# Altium footprint library ESD5Z6.0T1G.PcbLib: 3 footprints
Each footprint in its own frame and in the unit in brackets; x right, y up, seen from the top. Pads: shape width x height; smd on the part's side, far side on the other; paste and mask are expansions set on the pad; w line width, h text height; cw(c..) or ccw(c..) is an arc to the next point about the centre after c.
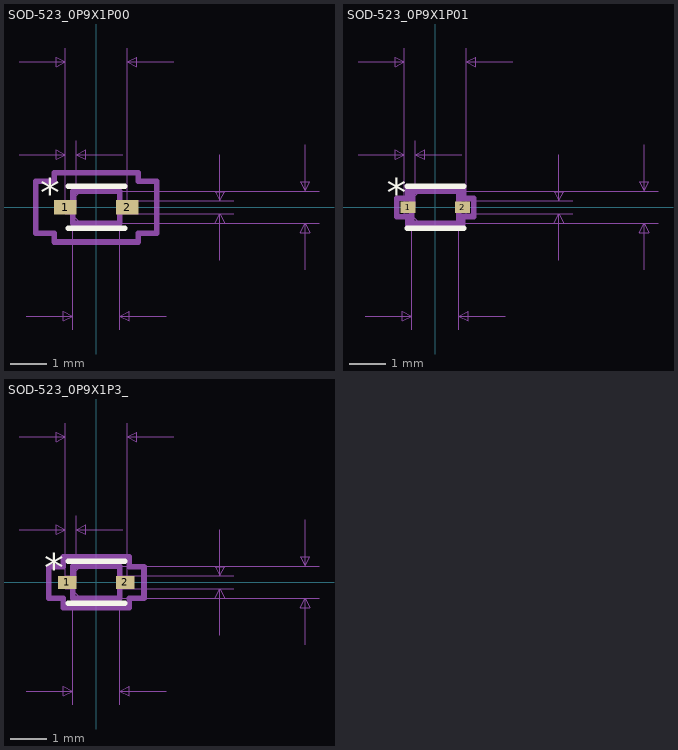
[diagram p0: the footprints below, top view; thin cyan lines are the x and y axes]

## SOD-523_0P9X1P00 [mil]
pads (2):
  rect 24x16 all layers, no hole: 1(-33.5,0) 2(33.5,0)
Top Layer keep-out:
  region: 
Top Overlay:
  lines w6: -30.5,-22.5 30.5,-22.5 ; -30.5,22.5 30.5,22.5
  text "*" at -60.5,0 h31.25
Outline:
  lines w1: -25.5,-8.75 -16.75,-17.5 ; -25.5,8.75 -16.75,17.5 ; -33.5,-7 -25.5,-7 -25.5,7 -33.5,7 -33.5,-7 ; -25.5,-17.5 -25.5,17.5 25.5,17.5 25.5,-17.5 -25.5,-17.5 ; 25.5,-7 33.5,-7 33.5,7 25.5,7 25.5,-7
  text "*" at -15.5,0 h31.25
Courtyard Bottom:
  lines w1: -83.5,57 -33.5,57 ; -83.5,157 -33.5,157 ; -75.5,-117.5 -25.5,-117.5 ; -33.5,72 -33.5,0 -33.5,172 ; -25.5,-132.5 -25.5,0 ; -21.5,0 -21.5,72 ; 0,-17.5 240.5,-17.5 ; 0,17.5 240.5,17.5 ; 25.5,-132.5 25.5,0 ; 28.5,57 -21.5,57 ; 33.5,-7 148.5,-7 ; 33.5,0 33.5,172 ; 33.5,7 148.5,7 ; 75.5,-117.5 25.5,-117.5 ; 83.5,157 33.5,157 ; 133.5,-57 133.5,-7 ; 133.5,57 133.5,7 ; 225.5,-67.5 225.5,-17.5 ; 225.5,67.5 225.5,17.5 ; -33.5,57 -43.5,52 -43.5,62 -33.5,57 ; -33.5,157 -43.5,152 -43.5,162 -33.5,157 ; -25.5,-117.5 -35.5,-122.5 -35.5,-112.5 -25.5,-117.5 ; -21.5,57 -11.5,52 -11.5,62 -21.5,57 ; 25.5,-117.5 35.5,-122.5 35.5,-112.5 25.5,-117.5 ; 33.5,157 43.5,152 43.5,162 33.5,157 ; 133.5,-7 138.5,-17 128.5,-17 133.5,-7 ; 133.5,7 138.5,17 128.5,17 133.5,7 ; 225.5,-17.5 230.5,-27.5 220.5,-27.5 225.5,-17.5 ; 225.5,17.5 230.5,27.5 220.5,27.5 225.5,17.5
  lines w6: -65.5,-28 -45.5,-28 -45.5,-37.5 45.5,-37.5 45.5,-28 65.5,-28 65.5,28 45.5,28 45.5,37.5 -45.5,37.5 -45.5,28 -65.5,28 -65.5,-28 ; -25.5,-17.5 25.5,-17.5 25.5,17.5 -25.5,17.5 -25.5,-17.5
  text "0.051in/1.295mm" at 0,-137.5 h15.62
  text "0.035in/0.889mm" at 245.5,0 h15.62
  text "0.014in/0.356mm" at 153.5,0 h15.62
  text "0.012in/0.305mm" at -27.5,77 h15.62
  text "0.067in/1.702mm" at 0,177 h15.62
  text "Alt 2 Padstyle: OX90Y60D30P" at 0,-433 h31.25
  text "Alt 1 Padstyle: OX60Y90D30P" at 0,-358 h31.25
  text "Default Padstyle: RX24Y16D0T" at 0,-283 h31.25
Courtyard Bottom keep-out:
  region: 
  region: 

## SOD-523_0P9X1P01 [mil]
pads (2):
  rect 16x12 all layers, no hole: 1(-29.5,0) 2(29.5,0)
Top Layer keep-out:
  region: 
Top Overlay:
  lines w6: -30.5,-22.5 30.5,-22.5 ; -30.5,22.5 30.5,22.5
  text "*" at -52.5,0 h31.25
Outline:
  lines w1: -25.5,-8.75 -16.75,-17.5 ; -25.5,8.75 -16.75,17.5 ; -33.5,-7 -25.5,-7 -25.5,7 -33.5,7 -33.5,-7 ; -25.5,-17.5 -25.5,17.5 25.5,17.5 25.5,-17.5 -25.5,-17.5 ; 25.5,-7 33.5,-7 33.5,7 25.5,7 25.5,-7
  text "*" at -15.5,0 h31.25
Courtyard Bottom:
  lines w1: -83.5,57 -33.5,57 ; -83.5,157 -33.5,157 ; -75.5,-117.5 -25.5,-117.5 ; -33.5,72 -33.5,0 -33.5,172 ; -25.5,-132.5 -25.5,0 ; -21.5,0 -21.5,72 ; 0,-17.5 240.5,-17.5 ; 0,17.5 240.5,17.5 ; 25.5,-132.5 25.5,0 ; 28.5,57 -21.5,57 ; 33.5,-7 148.5,-7 ; 33.5,0 33.5,172 ; 33.5,7 148.5,7 ; 75.5,-117.5 25.5,-117.5 ; 83.5,157 33.5,157 ; 133.5,-57 133.5,-7 ; 133.5,57 133.5,7 ; 225.5,-67.5 225.5,-17.5 ; 225.5,67.5 225.5,17.5 ; -33.5,57 -43.5,52 -43.5,62 -33.5,57 ; -33.5,157 -43.5,152 -43.5,162 -33.5,157 ; -25.5,-117.5 -35.5,-122.5 -35.5,-112.5 -25.5,-117.5 ; -21.5,57 -11.5,52 -11.5,62 -21.5,57 ; 25.5,-117.5 35.5,-122.5 35.5,-112.5 25.5,-117.5 ; 33.5,157 43.5,152 43.5,162 33.5,157 ; 133.5,-7 138.5,-17 128.5,-17 133.5,-7 ; 133.5,7 138.5,17 128.5,17 133.5,7 ; 225.5,-17.5 230.5,-27.5 220.5,-27.5 225.5,-17.5 ; 225.5,17.5 230.5,27.5 220.5,27.5 225.5,17.5
  lines w6: -41.5,-10 -29.5,-10 -29.5,-21.5 29.5,-21.5 29.5,-10 41.5,-10 41.5,10 29.5,10 29.5,21.5 -29.5,21.5 -29.5,10 -41.5,10 -41.5,-10 ; -25.5,-17.5 25.5,-17.5 25.5,17.5 -25.5,17.5 -25.5,-17.5
  text "0.051in/1.295mm" at 0,-137.5 h15.62
  text "0.035in/0.889mm" at 245.5,0 h15.62
  text "0.014in/0.356mm" at 153.5,0 h15.62
  text "0.012in/0.305mm" at -27.5,77 h15.62
  text "0.067in/1.702mm" at 0,177 h15.62
  text "Alt 2 Padstyle: OX90Y60D30P" at 0,-431 h31.25
  text "Alt 1 Padstyle: OX60Y90D30P" at 0,-356 h31.25
  text "Default Padstyle: RX16Y12D0T" at 0,-281 h31.25
Courtyard Bottom keep-out:
  region: 
  region: 

## SOD-523_0P9X1P3_ [mil]
pads (2):
  rect 20x14 all layers, no hole: 1(-31.5,0) 2(31.5,0)
Top Layer keep-out:
  region: 
Top Overlay:
  lines w6: -30.5,-22.5 30.5,-22.5 ; -30.5,22.5 30.5,22.5
  text "*" at -56.5,0 h31.25
Outline:
  lines w1: -25.5,-8.75 -16.75,-17.5 ; -25.5,8.75 -16.75,17.5 ; -33.5,-7 -25.5,-7 -25.5,7 -33.5,7 -33.5,-7 ; -25.5,-17.5 -25.5,17.5 25.5,17.5 25.5,-17.5 -25.5,-17.5 ; 25.5,-7 33.5,-7 33.5,7 25.5,7 25.5,-7
  text "*" at -15.5,0 h31.25
Courtyard Bottom:
  lines w1: -83.5,57 -33.5,57 ; -83.5,157 -33.5,157 ; -75.5,-117.5 -25.5,-117.5 ; -33.5,72 -33.5,0 -33.5,172 ; -25.5,-132.5 -25.5,0 ; -21.5,0 -21.5,72 ; 0,-17.5 240.5,-17.5 ; 0,17.5 240.5,17.5 ; 25.5,-132.5 25.5,0 ; 28.5,57 -21.5,57 ; 33.5,-7 148.5,-7 ; 33.5,0 33.5,172 ; 33.5,7 148.5,7 ; 75.5,-117.5 25.5,-117.5 ; 83.5,157 33.5,157 ; 133.5,-57 133.5,-7 ; 133.5,57 133.5,7 ; 225.5,-67.5 225.5,-17.5 ; 225.5,67.5 225.5,17.5 ; -33.5,57 -43.5,52 -43.5,62 -33.5,57 ; -33.5,157 -43.5,152 -43.5,162 -33.5,157 ; -25.5,-117.5 -35.5,-122.5 -35.5,-112.5 -25.5,-117.5 ; -21.5,57 -11.5,52 -11.5,62 -21.5,57 ; 25.5,-117.5 35.5,-122.5 35.5,-112.5 25.5,-117.5 ; 33.5,157 43.5,152 43.5,162 33.5,157 ; 133.5,-7 138.5,-17 128.5,-17 133.5,-7 ; 133.5,7 138.5,17 128.5,17 133.5,7 ; 225.5,-17.5 230.5,-27.5 220.5,-27.5 225.5,-17.5 ; 225.5,17.5 230.5,27.5 220.5,27.5 225.5,17.5
  lines w6: -51.5,-17 -35.5,-17 -35.5,-27.5 35.5,-27.5 35.5,-17 51.5,-17 51.5,17 35.5,17 35.5,27.5 -35.5,27.5 -35.5,17 -51.5,17 -51.5,-17 ; -25.5,-17.5 25.5,-17.5 25.5,17.5 -25.5,17.5 -25.5,-17.5
  text "0.051in/1.295mm" at 0,-137.5 h15.62
  text "0.035in/0.889mm" at 245.5,0 h15.62
  text "0.014in/0.356mm" at 153.5,0 h15.62
  text "0.012in/0.305mm" at -27.5,77 h15.62
  text "0.067in/1.702mm" at 0,177 h15.62
  text "Alt 2 Padstyle: OX90Y60D30P" at 0,-432 h31.25
  text "Alt 1 Padstyle: OX60Y90D30P" at 0,-357 h31.25
  text "Default Padstyle: RX20Y14D0T" at 0,-282 h31.25
Courtyard Bottom keep-out:
  region: 
  region: 